# EAGLE library part 662006235922 (library Wire-to-Board)
WR-MPC3 3.00mm Male Dual Row SMT Vertical Header with Through Hole Retention Clip, 6 Pins=>Code : Con_WTB_MPC3_2_PCB_SMT_662006235922 <http://katalog.we-online.de/media/thumbs2/eican/thb_Con_WTB_MPC3_2_PCB_SMT_6620xx235922_pf2.jpg> Details see: http://katalog.we-online.de/en/em/662_0xx_235_922 Created 2014-06-06, Karrer Zheng 2014 (C) Würth Elektronik
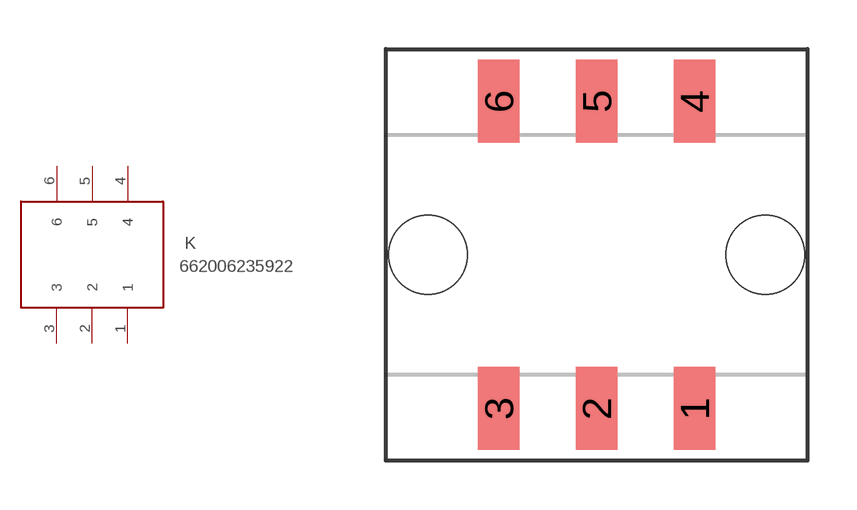
[diagram p332: symbol with the pads of 662006235922; footprint 662006235922]

Designator prefix K

## 662006235922  [662006235922]
1  1
2  2
3  3
4  4
5  5
6  6

## Footprint 662006235922 (pad centres in mm)
WR-MPC3 3.00mm Male Dual Row SMT Vertical Header with Through Hole Retention Clip, 6 Pins
smd 1.27 x 2.54: 1 0,-4.7; 2 -3,-4.7; 3 -6,-4.7; 4 0,4.7; 5 -3,4.7; 6 -6,4.7
hole 2.41 at 2.16,0
hole 2.41 at -8.16,0